# EAGLE library part CON_DSUB15D (library akita)
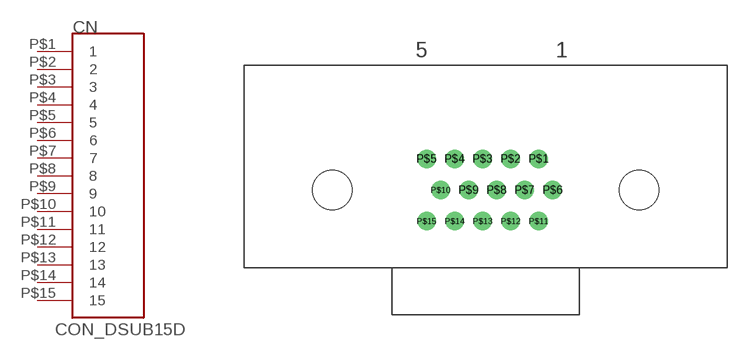
[diagram p119: symbol with the pads of CON_DSUB15D; footprint CON_DSUB15D]

Designator prefix CN

## CON_DSUB15DRD  [CON_DSUB15D]
P$1  1
P$2  2
P$3  3
P$4  4
P$5  5
P$6  6
P$7  7
P$8  8
P$9  9
P$10  10
P$11  11
P$12  12
P$13  13
P$14  14
P$15  15

## Footprint CON_DSUB15D (pad centres in mm)
drill 1: P$1 4.318,2.54; P$2 2.032,2.54; P$3 -0.254,2.54; P$4 -2.54,2.54; P$5 -4.826,2.54; P$6 5.461,0; P$7 3.175,0; P$8 0.889,0; P$9 -1.397,0; P$10 -3.683,0; P$11 4.318,-2.54; P$12 2.032,-2.54; P$13 -0.254,-2.54; P$14 -2.54,-2.54; P$15 -4.826,-2.54
hole 3.2 at -12.497,0
hole 3.2 at 12.497,0